# Altium schematic symbol library LTC5510IUF#PBF.Schlib: 1 symbol
Pins are listed as number, name and electrical type; pins without a type are passive.

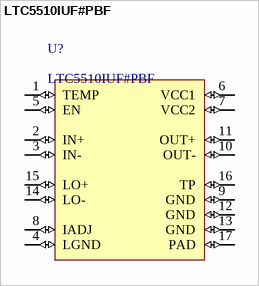
[diagram p0: symbol LTC5510IUF#PBF]

## LTC5510IUF#PBF
designator U?
RF Mixer IC General Purpose Up/Down Converter 1MHz ~ 6GHz 16-QFN (4x4)
pins: 1 TEMP (io), 2 IN+ (io), 3 IN- (io), 4 LGND (io), 5 EN (io), 6 VCC1 (io), 7 VCC2 (io), 8 IADJ (io), 9 GND (io), 10 OUT- (io), 11 OUT+ (io), 12 GND (io), 13 GND (io), 14 LO- (io), 15 LO+ (io), 16 TP (io), 17 PAD (io)